# Altium schematic symbol library SYM-Passive.SchLib: 208 symbols (part 6 of 9)
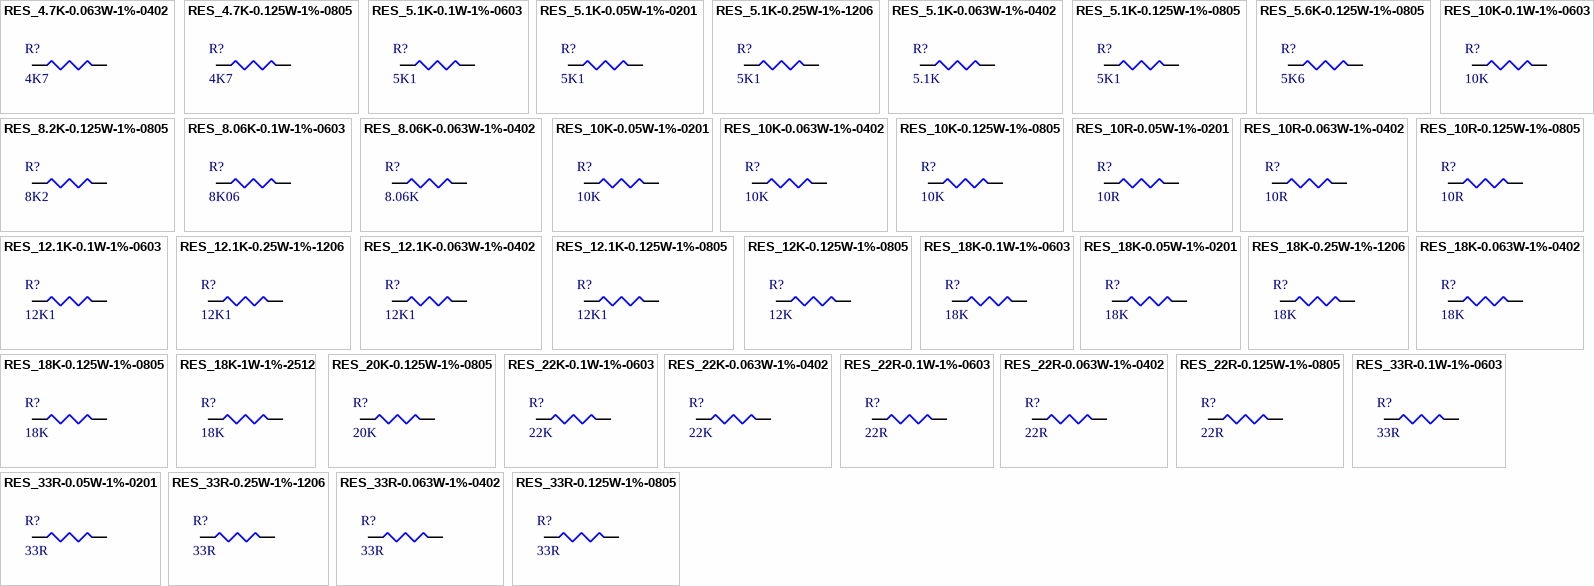
[diagram p10: symbols RES_4.7K-0.063W-1%-0402 to RES_33R-0.125W-1%-0805]

## RES_10K-0.05W-1%-0201
designator R?, comment 10K
Res General Purpose Thick Film 0201 100K Ohm 1% 1/20W ±200ppm/°C Molded SMD Paper T/R; Manufacturer: Yageo; Manufacturer Part Number: RC0201FR-07100KL; Resistance: 100kR; Power Rating: 50mW; Voltage Rating: 25V; Supplier 1: Digi-Key; RoHS: Yes; Category: Chip SMD Resistors; Stock 1: 8209685; Pricing 1: 1=0/10000, 10=0/04200, 100=0/01700, 1000=0/00765, 2500=0/00664, 5000=0/00548 (USD); Case/Package: 0201; Number of Pins: 2; Case Code (Imperial): 0201; Case Code (Metric): 0603; Contact Plating: Tin,Matte; Size Code: 0201; Min Operating Temperature: -55°C; Max Operating Temperature: 125°C; Tolerance: 1%; Packaging: Tape and Reel; Package Quantity: 10000; Termination: SMD/SMT; Resistor Type: Thick Film; Number of Terminations: 2; Temperature Coefficient: 200ppm/°C; Max Power Dissipation: 50mW; Voltage Rating (DC): 25V; Features: Moisture Resistant; Series: RC; Resistance Tolerance: 1%; Construction: Rectangular; Length: 0.024inch; Width: 0.012inch; Height: 0.01inch; Depth: 0.3mm; REACH SVHC: No SVHC; Military Standard: Not; Lead Free: Lead Free; RoHS Compliant: Yes; ComponentLink1URL: https://datasheet.ciiva.com/2493/pyu-r-int-thick-7-2493769.pdf?src-supplier=Digi-Key; ComponentLink1Description: https://datasheet.ciiva.com/2493/pyu-r-int-thick-7-2493769.pdf?src-supplier=Digi-Key; ComponentLink2URL: https://datasheet.ciiva.com/2493/pyu-r-int-thick-7-2493770.pdf?src-supplier=Digi-Key; ComponentLink2Description: https://datasheet.ciiva.com/2493/pyu-r-int-thick-7-2493770.pdf?src-supplier=Digi-Key; ComponentLink3URL: https://datasheet.ciiva.com/2493/pyu-r-int-thick-7-2493771.pdf?src-supplier=Digi-Key; ComponentLink3Description: https://datasheet.ciiva.com/2493/pyu-r-int-thick-7-2493771.pdf?src-supplier=Digi-Key; ComponentLink4URL: https://datasheet.ciiva.com/26829/getdatasheetpartid-420441-26829850.pdf?src-supplier=Verical; ComponentLink4Description: https://datasheet.ciiva.com/26829/getdatasheetpartid-420441-26829850.pdf?src-supplier=Verical; ComponentLink5URL: https://datasheet.ciiva.com/16855/pyu-rc0201-51-rohs-l-8-16855774.pdf?src-supplier=Avnet+Europe; ComponentLink5Description: https://datasheet.ciiva.com/16855/pyu-rc0201-51-rohs-l-8-16855774.pdf?src-supplier=Avnet+Europe; ComponentLink6URL: https://datasheet.ciiva.com/22698/1563626-22698495.pdf?src-supplier=Element14; ComponentLink6Description: https://datasheet.ciiva.com/22698/1563626-22698495.pdf?src-supplier=Element14; ComponentLink7URL: https://datasheet.ciiva.com/7660/1421516-7660806.pdf?src-supplier=Element14; ComponentLink7Description: https://datasheet.ciiva.com/7660/1421516-7660806.pdf?src-supplier=Element14; ComponentLink8URL: https://datasheet.ciiva.com/46391/1421516-46391338.pdf?src-supplier=Element14; ComponentLink8Description: https://datasheet.ciiva.com/46391/1421516-46391338.pdf?src-supplier=Element14; Supplier Part Number 1: 311-100KMCT-ND
footprint RESC0603X03N - 0201 (Chip Resistor, 2-Leads, Body 0/60x0/30mm, IPC Medium Density)
footprint RESC0603X03M - 0201 (Chip Resistor, 2-Leads, Body 0/60x0/30mm, IPC Low Density)
footprint RESC0603X03L - 0201 (Chip Resistor, 2-Leads, Body 0/60x0/30mm, IPC High Density)
pins: 1, 2

## RES_10K-0.063W-1%-0402
designator R?, comment 10K
Res General Purpose Thick Film 0402 10K Ohm 1% 1/16W ±100ppm/°C Molded SMD Paper T/R; Manufacturer: Yageo; Manufacturer Part Number: RC0402FR-0710KP; Resistance: 10kR; Max Power Dissipation: 63mW; Temperature Coefficient: 150ppm/°C; Supplier 1: Digi-Key; RoHS: Yes; Category: Chip SMD Resistors; Stock 1: 797794; Pricing 1: 1=0/10000, 10=0/03600, 100=0/01450, 1000=0/00652, 2500=0/00566, 5000=0/00468 (USD); Case/Package: 0402; Case Code (Metric): 1005; Case Code (Imperial): 0402; Min Operating Temperature: -55°C; Max Operating Temperature: 155°C; Packaging: Tape and Reel; Resistor Type: Thick Film; Number of Terminations: 2; Tolerance: 1%; Features: Moisture Resistant; Length: 0.039inch; Width: 0.02inch; Height: 0.016inch; RoHS Compliant: Yes; ComponentLink1URL: http://www.yageo.com/NewPortal/yageodocoutput?fileName=/pdf/R-Chip/PYu-RC_51_RoHS_P_0.pdf&src-supplier=Digi-Key; ComponentLink1Description: http://www.yageo.com/NewPortal/yageodocoutput?fileName=/pdf/R-Chip/PYu-RC_51_RoHS_P_0.pdf&src-supplier=Digi-Key; Supplier Part Number 1: YAG1249CT-ND
footprint RESC1005X04N - 0402 (Chip Resistor, 2-Leads, Body 1/00x0/50mm, IPC Medium Density)
footprint RESC1005X04M - 0402 (Chip Resistor, 2-Leads, Body 1/00x0/50mm, IPC Low Density)
footprint RESC1005X04L - 0402 (Chip Resistor, 2-Leads, Body 1/00x0/50mm, IPC High Density)
pins: 1, 2

## RES_10K-0.125W-1%-0805
designator R?, comment 10K
Res SMD 0805 10K 1% 0.125W T.C.100PPM; Manufacturer: Yageo; Manufacturer Part Number: RC0805FR-0710KL; Resistance: 10kR; Temperature Coefficient: 100ppm/°C; Power Rating: 125mW; Voltage Rating: 150V; Supplier 1: Digi-Key; RoHS: Yes; Category: Chip SMD Resistors; Pricing 1: 1=0/10000, 10=0/04200, 100=0/01690, 1000=0/00759, 2500=0/00659 (USD); Case/Package: 0805; Case Code (Imperial): 0805; Case Code (Metric): 2012; Size Code: 0805; Min Operating Temperature: -55°C; Max Operating Temperature: 155°C; Packaging: Tape and Reel; Tolerance: 1%; Resistor Type: Thick Film; Package Quantity: 1; Termination: SMD/SMT; Number of Terminations: 2; Max Power Dissipation: 125mW; Features: Moisture Resistant; Series: RC; Construction: Rectangular; Resistance Tolerance: 1%; Technology: THICK FILM; Length: 2mm; Width: 0.049inch; Height: 0.024inch; Depth: 1.25mm; REACH SVHC: Unknown; Lead Free: Lead Free; Military Standard: Not; RoHS Compliant: Yes; Supplier Part Number 1: 311-10.0KCRCT-ND
footprint RESC2012X05N - 0805 (Chip Resistor, 2-Leads, Body 2/00x1/25mm, IPC Medium Density)
footprint RESC2012X05M - 0805 (Chip Resistor, 2-Leads, Body 2/00x1/25mm, IPC Low Density)
footprint RESC2012X05L - 0805 (Chip Resistor, 2-Leads, Body 2/00x1/25mm, IPC High Density)
pins: 1, 2

## RES_10R-0.05W-1%-0201
designator R?, comment 10R
Res Thick Film 0201 10 Ohm 1% 1/20W -100ppm/°C to 350ppm/°C Molded SMD SMD Paper T/R; Manufacturer: Yageo; Manufacturer Part Number: RC0201FR-0710RL; Power Rating: 50mW; Voltage Rating: 25V; Supplier 1: Digi-Key; RoHS: Yes; Category: Chip SMD Resistors; Stock 1: 22308; Pricing 1: 1=0/10000, 10=0/06300, 100=0/02560, 1000=0/01149, 2500=0/00997, 5000=0/00824 (USD); Case/Package: 0201; Case Code (Imperial): 0201; Case Code (Metric): 0603; Contact Plating: Tin,Matte; Size Code: 0201; Min Operating Temperature: -55°C; Max Operating Temperature: 125°C; Resistance: 10R; Tolerance: 1%; Packaging: Tape and Reel; Package Quantity: 1; Termination: SMD/SMT; Resistor Type: Thick Film; Temperature Coefficient: 350ppm/°C; Number of Terminations: 2; Max Power Dissipation: 50mW; Features: Moisture Resistant; Series: RC; Resistance Tolerance: 1%; Length: 0.024inch; Width: 0.012inch; Height: 0.01inch; Radiation Hardening: No; REACH SVHC: No SVHC; Lead Free: Lead Free; RoHS Compliant: Yes; ComponentLink1URL: https://datasheet.ciiva.com/2467/pyu-r-int-thick-7-2467097.pdf?src-supplier=Digi-Key; ComponentLink1Description: https://datasheet.ciiva.com/2467/pyu-r-int-thick-7-2467097.pdf?src-supplier=Digi-Key; ComponentLink2URL: https://datasheet.ciiva.com/2467/pyu-r-int-thick-7-2467098.pdf?src-supplier=Digi-Key; ComponentLink2Description: https://datasheet.ciiva.com/2467/pyu-r-int-thick-7-2467098.pdf?src-supplier=Digi-Key; ComponentLink3URL: https://datasheet.ciiva.com/2467/pyu-r-int-thick-7-2467099.pdf?src-supplier=Digi-Key; ComponentLink3Description: https://datasheet.ciiva.com/2467/pyu-r-int-thick-7-2467099.pdf?src-supplier=Digi-Key; ComponentLink4URL: https://datasheet.ciiva.com/5757/1563626-5757896.pdf?src-supplier=Farnell; ComponentLink4Description: https://datasheet.ciiva.com/5757/1563626-5757896.pdf?src-supplier=Farnell; ComponentLink5URL: https://datasheet.ciiva.com/7672/1563626-7672197.pdf?src-supplier=Element14; ComponentLink5Description: https://datasheet.ciiva.com/7672/1563626-7672197.pdf?src-supplier=Element14; ComponentLink6URL: https://datasheet.ciiva.com/16855/pyu-rc0201-51-rohs-l-8-16855798.pdf?src-supplier=Avnet+Europe; ComponentLink6Description: https://datasheet.ciiva.com/16855/pyu-rc0201-51-rohs-l-8-16855798.pdf?src-supplier=Avnet+Europe; ComponentLink7URL: https://datasheet.ciiva.com/28405/pyu-rc0201-51-rohs-l-8-28405493.pdf?src-supplier=Avnet+Europe; ComponentLink7Description: https://datasheet.ciiva.com/28405/pyu-rc0201-51-rohs-l-8-28405493.pdf?src-supplier=Avnet+Europe; Supplier Part Number 1: 311-10.0MCT-ND
footprint RESC0603X03N - 0201 (Chip Resistor, 2-Leads, Body 0/60x0/30mm, IPC Medium Density)
footprint RESC0603X03M - 0201 (Chip Resistor, 2-Leads, Body 0/60x0/30mm, IPC Low Density)
footprint RESC0603X03L - 0201 (Chip Resistor, 2-Leads, Body 0/60x0/30mm, IPC High Density)
pins: 1, 2

## RES_10R-0.063W-1%-0402
designator R?, comment 10R
Res General Purpose Thick Film 0402 10 Ohm 1% 1/16W ±200ppm/°C Molded SMD Paper T/R; Manufacturer: Yageo; Manufacturer Part Number: RC0402FR-0710RL; Power Rating: 63mW; Voltage Rating: 50V; Supplier 1: Digi-Key; RoHS: Yes; Category: Chip SMD Resistors; Pricing 1: 1=0/10000, 10=0/02500, 100=0/01000, 1000=0/00451, 2500=0/00392, 5000=0/00323 (USD); Case/Package: 0402; Case Code (Imperial): 0402; Case Code (Metric): 1005; Min Operating Temperature: -55°C; Max Operating Temperature: 155°C; Tolerance: 1%; Resistance: 10R; Packaging: Tape and Reel; Termination: SMD/SMT; Resistor Type: Thick Film; Temperature Coefficient: 200ppm/°C; Number of Terminations: 2; Features: Moisture Resistant; Series: RC; Max Power Dissipation: 63mW; Resistance Tolerance: 1%; Technology: THICK FILM; Construction: Rectangular; Working Voltage: 50V; Length: 1mm; Height: 0.32mm; Depth: 0.5mm; REACH SVHC: Unknown; Military Standard: Not; Lead Free: Lead Free; RoHS Compliant: Yes; ComponentLink1URL: https://datasheet.ciiva.com/11808/0900766b80c66297-11808764.pdf?src-supplier=RSComponents; ComponentLink1Description: https://datasheet.ciiva.com/11808/0900766b80c66297-11808764.pdf?src-supplier=RSComponents; ComponentLink2URL: https://datasheet.ciiva.com/7849/1018594-7849818.pdf?src-supplier=Element14; ComponentLink2Description: https://datasheet.ciiva.com/7849/1018594-7849818.pdf?src-supplier=Element14; ComponentLink3URL: https://datasheet.ciiva.com/46394/1018594-46394954.pdf?src-supplier=Element14; ComponentLink3Description: https://datasheet.ciiva.com/46394/1018594-46394954.pdf?src-supplier=Element14; ComponentLink4URL: https://datasheet.ciiva.com/7849/1018594-7849819.pdf?src-supplier=Element14; ComponentLink4Description: https://datasheet.ciiva.com/7849/1018594-7849819.pdf?src-supplier=Element14; ComponentLink5URL: https://datasheet.ciiva.com/15189/getdatasheetpartid-323697-15189339.pdf?src-supplier=Verical; ComponentLink5Description: https://datasheet.ciiva.com/15189/getdatasheetpartid-323697-15189339.pdf?src-supplier=Verical; Supplier Part Number 1: 311-10.0LRCT-ND
footprint RESC1005X04N - 0402 (Chip Resistor, 2-Leads, Body 1/00x0/50mm, IPC Medium Density)
footprint RESC1005X04M - 0402 (Chip Resistor, 2-Leads, Body 1/00x0/50mm, IPC Low Density)
footprint RESC1005X04L - 0402 (Chip Resistor, 2-Leads, Body 1/00x0/50mm, IPC High Density)
pins: 1, 2

## RES_10R-0.125W-1%-0805
designator R?, comment 10R
RC Series 0805 0.125 W 10 Ohm ±1% ±100 ppm/°C SMT Thick Film Chip Resistor; Manufacturer: Yageo; Manufacturer Part Number: RC0805FR-1310RL; Power Rating: 125mW; Voltage Rating: 150V; Temperature Coefficient: 200ppm/°C; Supplier 1: Digi-Key; Category: Chip SMD Resistors; Stock 1: 17123; Pricing 1: 1=0/10000, 10=0/08300, 100=0/03390, 1000=0/01521, 2500=0/01320, 5000=0/01090 (USD); Case/Package: 0805; Case Code (Imperial): 0805; Case Code (Metric): 2012; Contact Plating: Tin; Min Operating Temperature: -55°C; Max Operating Temperature: 155°C; Resistance: 10R; Tolerance: 1%; Packaging: Tape and Reel; Resistor Type: Thick Film; Termination: SMD/SMT; Series: RC; Construction: Rectangular; Length: 2mm; Width: 1.25mm; Height: 0.5mm; Depth: 1.25mm; Military Standard: Not; RoHS Compliant: Yes; ComponentLink1URL: http://components.arrow.com/part/dataview/0323_00201008?src-supplier=Arrow+Europe; ComponentLink1Description: http://components.arrow.com/part/dataview/0323_00201008?src-supplier=Arrow+Europe; ComponentLink2URL: http://www.mouser.com/ds/2/447/Yageo_08112016_RC0805-968729.pdf?src-supplier=Mouser; ComponentLink2Description: http://www.mouser.com/ds/2/447/Yageo_08112016_RC0805-968729.pdf?src-supplier=Mouser; ComponentLink3URL: http://www.yageo.com/documents/recent/PYu-RC_Group_51_RoHS_L_2.pdf?src-supplier=Avnet; ComponentLink3Description: http://www.yageo.com/documents/recent/PYu-RC_Group_51_RoHS_L_2.pdf?src-supplier=Avnet; ComponentLink4URL: http://www.yageo.com/documents/recent/PYu-RC0805_51_RoHS_L_4.pdf?src-supplier=Avnet+Europe; ComponentLink4Description: http://www.yageo.com/documents/recent/PYu-RC0805_51_RoHS_L_4.pdf?src-supplier=Avnet+Europe; ComponentLink5URL: https://datasheet.octopart.com/RC0805FR-1310RL-Yageo-datasheet-8324252.pdf?src-supplier=Future+Electronics; ComponentLink5Description: https://datasheet.octopart.com/RC0805FR-1310RL-Yageo-datasheet-8324252.pdf?src-supplier=Future+Electronics; ComponentLink6URL: https://datasheet.octopart.com/RC0805FR-1310RL-Yageo-datasheet-73766026.pdf; ComponentLink6Description: https://datasheet.octopart.com/RC0805FR-1310RL-Yageo-datasheet-73766026.pdf; Supplier Part Number 1: 13-RC0805FR-1310RLCT-ND
footprint RESC2012X05N - 0805 (Chip Resistor, 2-Leads, Body 2/00x1/25mm, IPC Medium Density)
footprint RESC2012X05M - 0805 (Chip Resistor, 2-Leads, Body 2/00x1/25mm, IPC Low Density)
footprint RESC2012X05L - 0805 (Chip Resistor, 2-Leads, Body 2/00x1/25mm, IPC High Density)
pins: 1, 2

## RES_12.1K-0.1W-1%-0603
designator R?, comment 12K1
Res General Purpose Thick Film 0603 1.21K Ohm 1% 1/10W ±100ppm/°C Molded SMD Paper T/R; Manufacturer: Yageo; Manufacturer Part Number: RC0603FR-071K21L; Resistance: 1.21kR; Power Rating: 100mW; Voltage Rating: 50V; Working Voltage: 75V; Supplier 1: Digi-Key; RoHS: Yes; Category: Chip SMD Resistors; Stock 1: 1059233; Pricing 1: 1=0/10000, 10=0/02300, 100=0/00930, 1000=0/00417, 2500=0/00362 (USD); Case/Package: 0603; Case Code (Imperial): 0603; Case Code (Metric): 1608; Min Operating Temperature: -55°C; Max Operating Temperature: 155°C; Tolerance: 1%; Packaging: Tape and Reel; Package Quantity: 5000; Termination: SMD/SMT; Resistor Type: Thick Film; Temperature Coefficient: 100ppm/°C; Voltage Rating (DC): 50V; Number of Terminations: 2; Features: Moisture Resistant; Series: RC; Max Power Dissipation: 100mW; Construction: Rectangular; Technology: THICK FILM; Length: 1.6mm; Width: 0.8mm; Height: 0.45mm; Depth: 0.8mm; Military Standard: Not; Lead Free: Lead Free; RoHS Compliant: Yes; ComponentLink1URL: https://datasheet.ciiva.com/12555/rc0603-272842-12555339.pdf?src-supplier=Mouser; ComponentLink1Description: https://datasheet.ciiva.com/12555/rc0603-272842-12555339.pdf?src-supplier=Mouser; Supplier Part Number 1: 311-1.21KHRCT-ND
footprint RESC1608X04N - 0603 (Chip Resistor, 2-Leads, Body 1/60x0/80mm, IPC Medium Density)
footprint RESC1608X04M - 0603 (Chip Resistor, 2-Leads, Body 1/60x0/80mm, IPC Low Density)
footprint RESC1608X04L - 0603 (Chip Resistor, 2-Leads, Body 1/60x0/80mm, IPC High Density)
pins: 1, 2

## RES_12.1K-0.25W-1%-1206
designator R?, comment 12K1
Res Thick Film 1206 12.1K Ohm 1% 0.25W(1/4W) ±100ppm/C Pad SMD T/R; Manufacturer: Yageo; Manufacturer Part Number: RC1206FR-0712K1L; Power Rating: 250mW; Value: 12.1kR; Voltage Rating: 200V; Temperature Coefficient: 100ppm/°C; Supplier: Digi-Key; Supplier Part Number: 311-12.1KFRCT-ND; RoHS: Yes; Category: Chip SMD Resistors; Stock: 133585; Pricing: 1=0.10000, 10=0.05900, 100=0.02380, 1000=0.01071, 2500=0.00929 (USD); Mounting Technology: Surface Mount; Case/Package: 1206; Case Code (Imperial): 1206; Case Code (Metric): 3216; Min Operating Temperature: -55°C; Max Operating Temperature: 155°C; Packaging: Tape and Reel; Package Quantity: 1; Tolerance: 1%; Termination: SMD/SMT; Resistor Type: Thick Film; Number of Terminations: 2; Max Power Dissipation: 250mW; Voltage Rating (DC): 200V; Features: Moisture Resistant; Series: RC; Construction: Rectangular; Technology: THICK FILM; Length: 3.1mm; Width: 1.6mm; Height: 0.55mm; Depth: 1.6mm; Military Standard: Not; Lead Free: Lead Free; RoHS Compliant: Yes; ComponentLink1URL: https://datasheet.ciiva.com/11809/0900766b80c6630a-11809445.pdf?src-supplier=Rs; ComponentLink1Description: https://datasheet.ciiva.com/11809/0900766b80c6630a-11809445.pdf?src-supplier=Rs; ComponentLink2URL: https://datasheet.ciiva.com/2460/pyu-rc1206-51-rohs-l-4-2460949.pdf?src-supplier=Digi-Key; ComponentLink2Description: https://datasheet.ciiva.com/2460/pyu-rc1206-51-rohs-l-4-2460949.pdf?src-supplier=Digi-Key; ComponentLink3URL: https://datasheet.ciiva.com/2460/pyu-rc1206-51-rohs-l-4-2460950.pdf?src-supplier=Digi-Key; ComponentLink3Description: https://datasheet.ciiva.com/2460/pyu-rc1206-51-rohs-l-4-2460950.pdf?src-supplier=Digi-Key; ComponentLink4URL: https://datasheet.ciiva.com/2460/pyu-rc1206-51-rohs-l-4-2460948.pdf?src-supplier=Digi-Key; ComponentLink4Description: https://datasheet.ciiva.com/2460/pyu-rc1206-51-rohs-l-4-2460948.pdf?src-supplier=Digi-Key; ComponentLink5URL: https://datasheet.ciiva.com/16746/pyu-rc1206-51-rohs-l-4-16746040.pdf?src-supplier=Future+Electronics; ComponentLink5Description: https://datasheet.ciiva.com/16746/pyu-rc1206-51-rohs-l-4-16746040.pdf?src-supplier=Future+Electronics
footprint RESC3116X06N - 1206 (Chip Resistor, 2-Leads, Body 3/10x1/60mm, IPC Medium Density)
footprint RESC3116X06M - 1206 (Chip Resistor, 2-Leads, Body 3/10x1/60mm, IPC Low Density)
footprint RESC3116X06L - 1206 (Chip Resistor, 2-Leads, Body 3/10x1/60mm, IPC High Density)
pins: 1, 2

## RES_12.1K-0.063W-1%-0402
designator R?, comment 12K1
Res General Purpose Thick Film 0402 12.1K Ohm 1% 1/16W ±100ppm/°C Molded SMD Paper T/R; Manufacturer: Yageo; Manufacturer Part Number: RC0402FR-0712K1L; Resistance: 12.1kR; Power Rating: 62.5mW; Voltage Rating: 50V; Max Power Dissipation: 63mW; Supplier 1: Digi-Key; RoHS: Yes; Category: Chip SMD Resistors; Stock 1: 700009; Pricing 1: 1=0/10000, 10=0/01600, 100=0/00660, 1000=0/00299, 2500=0/00259, 5000=0/00214 (USD); Case/Package: 0402; Case Code (Metric): 1005; Case Code (Imperial): 0402; Size Code: 0402; Min Operating Temperature: -55°C; Max Operating Temperature: 155°C; Package Quantity: 1; Tolerance: 1%; Packaging: Tape and Reel; Resistor Type: Thick Film; Number of Terminations: 2; Termination: SMD/SMT; Temperature Coefficient: 100ppm/°C; Voltage Rating (DC): 50V; Features: Moisture Resistant; Series: RC; Construction: Rectangular; Resistance Tolerance: 1%; Length: 1mm; Width: 0.02inch; Height: 0.016inch; Depth: 0.5mm; Military Standard: Not; Lead Free: Lead Free; RoHS Compliant: Yes; REACH SVHC: No SVHC; ComponentLink1URL: https://datasheet.ciiva.com/11808/0900766b80d8d3b8-11808222.pdf?src-supplier=RSComponents; ComponentLink1Description: https://datasheet.ciiva.com/11808/0900766b80d8d3b8-11808222.pdf?src-supplier=RSComponents; ComponentLink2URL: https://datasheet.ciiva.com/2453/pyu-r-int-thick-7-2453488.pdf?src-supplier=Digi-Key; ComponentLink2Description: https://datasheet.ciiva.com/2453/pyu-r-int-thick-7-2453488.pdf?src-supplier=Digi-Key; ComponentLink3URL: https://datasheet.ciiva.com/2453/pyu-r-int-thick-7-2453489.pdf?src-supplier=Digi-Key; ComponentLink3Description: https://datasheet.ciiva.com/2453/pyu-r-int-thick-7-2453489.pdf?src-supplier=Digi-Key; ComponentLink4URL: https://datasheet.ciiva.com/7983/1018594-7983493.pdf?src-supplier=Element14; ComponentLink4Description: https://datasheet.ciiva.com/7983/1018594-7983493.pdf?src-supplier=Element14; ComponentLink5URL: https://datasheet.ciiva.com/17070/pyu-rc0402-51-rohs-l-6-r-17070757.pdf?src-supplier=Future+Electronics; ComponentLink5Description: https://datasheet.ciiva.com/17070/pyu-rc0402-51-rohs-l-6-r-17070757.pdf?src-supplier=Future+Electronics; ComponentLink6URL: https://datasheet.ciiva.com/2453/pyu-r-int-thick-7-2453487.pdf?src-supplier=Digi-Key; ComponentLink6Description: https://datasheet.ciiva.com/2453/pyu-r-int-thick-7-2453487.pdf?src-supplier=Digi-Key; Supplier Part Number 1: 311-12.1KLRCT-ND
footprint RESC1005X04N - 0402 (Chip Resistor, 2-Leads, Body 1/00x0/50mm, IPC Medium Density)
footprint RESC1005X04M - 0402 (Chip Resistor, 2-Leads, Body 1/00x0/50mm, IPC Low Density)
footprint RESC1005X04L - 0402 (Chip Resistor, 2-Leads, Body 1/00x0/50mm, IPC High Density)
pins: 1, 2

## RES_12.1K-0.125W-1%-0805
designator R?, comment 12K1
Res Thick Film 0805 121K Ohm 1% 0.125W(1/8W) ±100ppm/C Pad SMD T/R; Manufacturer: Yageo; Manufacturer Part Number: RC0805FR-07121KL; Value: 121kR; Power Rating: 125mW; Temperature Coefficient: 100ppm/°C; Voltage Rating (DC): 150V; Supplier: Digi-Key; Supplier Part Number: 311-121KCRCT-ND; RoHS: Yes; Category: Chip SMD Resistors; Stock: 314831; Pricing: 1=0.10000, 10=0.03300, 100=0.01330, 1000=0.00600, 2500=0.00520 (USD); Case/Package: 0805; Case Code (Imperial): 0805; Case Code (Metric): 2012; Min Operating Temperature: -55°C; Max Operating Temperature: 155°C; Tolerance: 1%; Packaging: Tape and Reel; Voltage Rating: 150V; Termination: SMD/SMT; Number of Terminations: 2; Features: Moisture Resistant; Series: RC; Max Power Dissipation: 125mW; Working Voltage: 150V; Technology: THICK FILM; Lead Free: Lead Free; RoHS Compliant: Yes; ComponentLink1URL: https://datasheet.ciiva.com/12668/rc0805-12668170.pdf?src-supplier=Mouser; ComponentLink1Description: https://datasheet.ciiva.com/12668/rc0805-12668170.pdf?src-supplier=Mouser; ComponentLink2URL: https://datasheet.ciiva.com/16741/rc0805-16741462.pdf?src-supplier=Future+Electronics; ComponentLink2Description: https://datasheet.ciiva.com/16741/rc0805-16741462.pdf?src-supplier=Future+Electronics
footprint RESC2012X05N - 0805 (Chip Resistor, 2-Leads, Body 2/00x1/25mm, IPC Medium Density)
footprint RESC2012X05M - 0805 (Chip Resistor, 2-Leads, Body 2/00x1/25mm, IPC Low Density)
footprint RESC2012X05L - 0805 (Chip Resistor, 2-Leads, Body 2/00x1/25mm, IPC High Density)
pins: 1, 2

## RES_12K-0.125W-1%-0805
designator R?, comment 12K
Res Thick Film 0805 12K Ohm 1% 0.125W(1/8W) ±100ppm/C Pad SMD T/R; Manufacturer: Yageo; Manufacturer Part Number: RC0805FR-0712KL; Resistance: 12kR; Power Rating: 125mW; Temperature Coefficient: 100ppm/°C; Voltage Rating: 150V; Supplier 1: Digi-Key; RoHS: Yes; Category: Chip SMD Resistors; Stock 1: 314821; Pricing 1: 1=0/10000, 10=0/04200, 100=0/01690, 1000=0/00759, 2500=0/00659 (USD); Case/Package: 0805; Case Code (Imperial): 0805; Case Code (Metric): 2012; Weight: 0.000194oz; Size Code: 0805; Min Operating Temperature: -55°C; Max Operating Temperature: 155°C; Tolerance: 1%; Packaging: Tape and Reel; Package Quantity: 1; Termination: SMD/SMT; Resistor Type: Thick Film; Number of Terminations: 2; Max Power Dissipation: 125mW; Features: Moisture Resistant; Series: RC; Resistance Tolerance: 1%; Construction: Rectangular; Length: 2mm; Width: 1.25mm; Height: 0.024inch; Depth: 1.25mm; REACH SVHC: Unknown; Lead Free: Lead Free; Military Standard: Not; RoHS Compliant: Yes; ComponentLink1URL: https://datasheet.ciiva.com/2519/pyu-r-int-thick-7-2519832.pdf?src-supplier=Digi-Key; ComponentLink1Description: https://datasheet.ciiva.com/2519/pyu-r-int-thick-7-2519832.pdf?src-supplier=Digi-Key; ComponentLink2URL: https://datasheet.ciiva.com/2519/pyu-r-int-thick-7-2519833.pdf?src-supplier=Digi-Key; ComponentLink2Description: https://datasheet.ciiva.com/2519/pyu-r-int-thick-7-2519833.pdf?src-supplier=Digi-Key; ComponentLink3URL: https://datasheet.ciiva.com/2519/pyu-r-int-thick-7-2519831.pdf?src-supplier=Digi-Key; ComponentLink3Description: https://datasheet.ciiva.com/2519/pyu-r-int-thick-7-2519831.pdf?src-supplier=Digi-Key; ComponentLink4URL: https://datasheet.ciiva.com/12577/rc0805-12577253.pdf?src-supplier=Mouser; ComponentLink4Description: https://datasheet.ciiva.com/12577/rc0805-12577253.pdf?src-supplier=Mouser; ComponentLink5URL: https://datasheet.ciiva.com/7941/444164-7941693.pdf?src-supplier=Element14; ComponentLink5Description: https://datasheet.ciiva.com/7941/444164-7941693.pdf?src-supplier=Element14; ComponentLink6URL: https://datasheet.ciiva.com/7941/444164-7941694.pdf?src-supplier=Element14; ComponentLink6Description: https://datasheet.ciiva.com/7941/444164-7941694.pdf?src-supplier=Element14; ComponentLink7URL: https://datasheet.ciiva.com/17018/rc0805-17018634.pdf?src-supplier=Future+Electronics; ComponentLink7Description: https://datasheet.ciiva.com/17018/rc0805-17018634.pdf?src-supplier=Future+Electronics; Supplier Part Number 1: 311-12.0KCRCT-ND
footprint RESC2012X05N - 0805 (Chip Resistor, 2-Leads, Body 2/00x1/25mm, IPC Medium Density)
footprint RESC2012X05M - 0805 (Chip Resistor, 2-Leads, Body 2/00x1/25mm, IPC Low Density)
footprint RESC2012X05L - 0805 (Chip Resistor, 2-Leads, Body 2/00x1/25mm, IPC High Density)
pins: 1, 2

## RES_18K-0.1W-1%-0603
designator R?, comment 18K
Res Thick Film 0603 18K Ohm 1% 0.1W(1/10W) +/-100ppm/ßC Epoxy SMD T/R; Manufacturer: Yageo; Manufacturer Part Number: RC0603FR-0718KL; Resistance: 18kR; Voltage Rating (DC): 50V; Temperature Coefficient: 100ppm/°C; Power Rating: 100mW; Voltage Rating: 75V; Supplier 1: Digi-Key; RoHS: Yes; Category: Chip SMD Resistors; Stock 1: 872510; Pricing 1: 1=0/10000, 10=0/02100, 100=0/00850, 1000=0/00383, 2500=0/00332 (USD); Case/Package: 0603; Number of Pins: 2; Case Code (Imperial): 0603; Case Code (Metric): 1608; Size Code: 0603; Weight: 7.1E-05oz; Min Operating Temperature: -55°C; Max Operating Temperature: 155°C; Tolerance: 1%; Packaging: Tape and Reel; Resistor Type: Thick Film; Termination: SMD/SMT; Features: Moisture Resistant; Series: RC; Max Power Dissipation: 100mW; Number of Terminations: 2; Resistance Tolerance: 1%; Technology: THICK FILM; Construction: Rectangular; Length: 1.6mm; Width: 0.8mm; Height: 0.45mm; Depth: 0.8mm; Lead Free: Lead Free; Military Standard: Not; RoHS Compliant: Yes; ComponentLink1URL: https://datasheet.ciiva.com/11819/0900766b80f96399-11819270.pdf?src-supplier=RSComponents; ComponentLink1Description: https://datasheet.ciiva.com/11819/0900766b80f96399-11819270.pdf?src-supplier=RSComponents; ComponentLink2URL: https://datasheet.ciiva.com/7746/443971-7746268.pdf?src-supplier=Element14; ComponentLink2Description: https://datasheet.ciiva.com/7746/443971-7746268.pdf?src-supplier=Element14; ComponentLink3URL: https://datasheet.ciiva.com/7746/443971-7746269.pdf?src-supplier=Element14; ComponentLink3Description: https://datasheet.ciiva.com/7746/443971-7746269.pdf?src-supplier=Element14; ComponentLink4URL: https://datasheet.ciiva.com/15189/getdatasheetpartid-325162-15189626.pdf?src-supplier=Verical; ComponentLink4Description: https://datasheet.ciiva.com/15189/getdatasheetpartid-325162-15189626.pdf?src-supplier=Verical; Supplier Part Number 1: 311-18.0KHRCT-ND
footprint RESC1608X04N - 0603 (Chip Resistor, 2-Leads, Body 1/60x0/80mm, IPC Medium Density)
footprint RESC1608X04M - 0603 (Chip Resistor, 2-Leads, Body 1/60x0/80mm, IPC Low Density)
footprint RESC1608X04L - 0603 (Chip Resistor, 2-Leads, Body 1/60x0/80mm, IPC High Density)
pins: 1, 2

## RES_18K-0.05W-1%-0201
designator R?, comment 18K
Res Thick Film 0201 18K Ohm 1% 0.05W(1/20W) ±200ppm/°C Pad SMD T/R; Manufacturer: Yageo; Manufacturer Part Number: RC0201FR-0718KL; Resistance: 18kR; Power Rating: 50mW; Voltage Rating: 25V; Supplier 1: Digi-Key; RoHS: Yes; Category: Chip SMD Resistors; Stock 1: 326936; Pricing 1: 1=0/10000, 10=0/03700, 100=0/01500, 1000=0/00672, 2500=0/00583, 5000=0/00482 (USD); Case/Package: 0201; Case Code (Metric): 0603; Case Code (Imperial): 0201; Size Code: 0201; Min Operating Temperature: -55°C; Max Operating Temperature: 125°C; Tolerance: 1%; Package Quantity: 1; Packaging: Cut Tape; Resistor Type: Thick Film; Number of Terminations: 2; Termination: SMD/SMT; Temperature Coefficient: 200ppm/°C; Max Power Dissipation: 50mW; Features: Moisture Resistant; Series: RC; Resistance Tolerance: 1%; Length: 0.6mm; Width: 0.3mm; Height: 0.23mm; Reach SVHC Compliant: Yes; Lead Free: Lead Free; RoHS Compliant: Yes; ComponentLink1URL: https://datasheet.ciiva.com/22661/1563626-22661291.pdf?src-supplier=Element14; ComponentLink1Description: https://datasheet.ciiva.com/22661/1563626-22661291.pdf?src-supplier=Element14; ComponentLink2URL: https://datasheet.ciiva.com/2493/pyu-r-int-thick-7-2493818.pdf?src-supplier=Digi-Key; ComponentLink2Description: https://datasheet.ciiva.com/2493/pyu-r-int-thick-7-2493818.pdf?src-supplier=Digi-Key; ComponentLink3URL: https://datasheet.ciiva.com/2493/pyu-r-int-thick-7-2493819.pdf?src-supplier=Digi-Key; ComponentLink3Description: https://datasheet.ciiva.com/2493/pyu-r-int-thick-7-2493819.pdf?src-supplier=Digi-Key; ComponentLink4URL: https://datasheet.ciiva.com/2493/pyu-r-int-thick-7-2493817.pdf?src-supplier=Digi-Key; ComponentLink4Description: https://datasheet.ciiva.com/2493/pyu-r-int-thick-7-2493817.pdf?src-supplier=Digi-Key; Supplier Part Number 1: 311-18.0KMCT-ND
footprint RESC0603X03N - 0201 (Chip Resistor, 2-Leads, Body 0/60x0/30mm, IPC Medium Density)
footprint RESC0603X03M - 0201 (Chip Resistor, 2-Leads, Body 0/60x0/30mm, IPC Low Density)
footprint RESC0603X03L - 0201 (Chip Resistor, 2-Leads, Body 0/60x0/30mm, IPC High Density)
pins: 1, 2

## RES_18K-0.25W-1%-1206
designator R?, comment 18K
Res Thick Film 1206 18K Ohm 1% 0.25W(1/4W) ±100ppm/C Pad SMD T/R; Manufacturer: Yageo; Manufacturer Part Number: RC1206FR-0718KL; Resistance: 18kR; Power Rating: 250mW; Voltage Rating: 200V; Temperature Coefficient: 100ppm/°C; Supplier 1: Digi-Key; RoHS: Yes; Category: Chip SMD Resistors; Stock 1: 179392; Pricing 1: 1=0/10000, 10=0/06500, 100=0/02650, 1000=0/01188, 2500=0/01032 (USD); Case/Package: 1206; Case Code (Imperial): 1206; Case Code (Metric): 3216; Weight: 0.000571oz; Size Code: 1206; Min Operating Temperature: -55°C; Max Operating Temperature: 155°C; Package Quantity: 1; Tolerance: 1%; Packaging: Cut Tape; Termination: SMD/SMT; Resistor Type: Thick Film; Number of Terminations: 2; Max Power Dissipation: 250mW; Features: Moisture Resistant; Series: RC1206; Resistance Tolerance: 1%; Technology: THICK FILM; Construction: Rectangular; Length: 0.122inch; Width: 0.063inch; Height: 0.55mm; Depth: 1.6mm; Lead Free: Lead Free; RoHS Compliant: Yes; Military Standard: Not; ComponentLink1URL: https://datasheet.ciiva.com/11819/0900766b80c6630a-11819880.pdf?src-supplier=RSComponents; ComponentLink1Description: https://datasheet.ciiva.com/11819/0900766b80c6630a-11819880.pdf?src-supplier=RSComponents; ComponentLink2URL: https://datasheet.ciiva.com/2492/pyu-rc1206-51-rohs-l-4-2492036.pdf?src-supplier=Digi-Key; ComponentLink2Description: https://datasheet.ciiva.com/2492/pyu-rc1206-51-rohs-l-4-2492036.pdf?src-supplier=Digi-Key; ComponentLink3URL: https://datasheet.ciiva.com/2492/pyu-rc1206-51-rohs-l-4-2492037.pdf?src-supplier=Digi-Key; ComponentLink3Description: https://datasheet.ciiva.com/2492/pyu-rc1206-51-rohs-l-4-2492037.pdf?src-supplier=Digi-Key; ComponentLink4URL: https://datasheet.ciiva.com/2492/pyu-rc1206-51-rohs-l-4-2492035.pdf?src-supplier=Digi-Key; ComponentLink4Description: https://datasheet.ciiva.com/2492/pyu-rc1206-51-rohs-l-4-2492035.pdf?src-supplier=Digi-Key; ComponentLink5URL: https://datasheet.ciiva.com/7857/444357-7857271.pdf?src-supplier=Element14; ComponentLink5Description: https://datasheet.ciiva.com/7857/444357-7857271.pdf?src-supplier=Element14; ComponentLink6URL: https://datasheet.ciiva.com/7857/444357-7857270.pdf?src-supplier=Element14; ComponentLink6Description: https://datasheet.ciiva.com/7857/444357-7857270.pdf?src-supplier=Element14; Supplier Part Number 1: 311-18.0KFRCT-ND
footprint RESC3116X06N - 1206 (Chip Resistor, 2-Leads, Body 3/10x1/60mm, IPC Medium Density)
footprint RESC3116X06M - 1206 (Chip Resistor, 2-Leads, Body 3/10x1/60mm, IPC Low Density)
footprint RESC3116X06L - 1206 (Chip Resistor, 2-Leads, Body 3/10x1/60mm, IPC High Density)
pins: 1, 2

## RES_18K-0.063W-1%-0402
designator R?, comment 18K
Res Thick Film 0402 18K Ohm 1% 0.063W(1/16W) ±100ppm/C Pad SMD T/R; Manufacturer: Yageo; Manufacturer Part Number: RC0402FR-0718KL; Resistance: 18kR; Power Rating: 63mW; Voltage Rating: 50V; Temperature Coefficient: 100ppm/°C; Supplier 1: Digi-Key; RoHS: Yes; Category: Chip SMD Resistors; Stock 1: 1311272; Pricing 1: 1=0/10000, 10=0/01400, 100=0/00580, 1000=0/00262, 2500=0/00228, 5000=0/00188 (USD); Case/Package: 0402; Case Code (Metric): 1005; Case Code (Imperial): 0402; Size Code: 0402; Min Operating Temperature: -55°C; Max Operating Temperature: 155°C; Tolerance: 1%; Packaging: Tape and Reel; Resistor Type: Thick Film; Number of Terminations: 2; Termination: SMD/SMT; Max Power Dissipation: 63mW; Features: Moisture Resistant; Series: RC; Construction: Rectangular; Resistance Tolerance: 1%; Package Quantity: 1; Technology: THICK FILM; Length: 1mm; Width: 0.02inch; Height: 0.016inch; Depth: 0.5mm; Military Standard: Not; Lead Free: Lead Free; RoHS Compliant: Yes; ComponentLink1URL: http://www.farnell.com/datasheets/2167052.pdf?src-supplier=Newark; ComponentLink1Description: http://www.farnell.com/datasheets/2167052.pdf?src-supplier=Newark; Supplier Part Number 1: 311-18.0KLRCT-ND
footprint RESC1005X04N - 0402 (Chip Resistor, 2-Leads, Body 1/00x0/50mm, IPC Medium Density)
footprint RESC1005X04M - 0402 (Chip Resistor, 2-Leads, Body 1/00x0/50mm, IPC Low Density)
footprint RESC1005X04L - 0402 (Chip Resistor, 2-Leads, Body 1/00x0/50mm, IPC High Density)
pins: 1, 2

## RES_18K-0.125W-1%-0805
designator R?, comment 18K
Res Thick Film 0805 1.8K Ohm 1% 0.125W(1/8W) ±100ppm/C Pad SMD T/R; Manufacturer: Yageo; Manufacturer Part Number: RC0805FR-071K8L; Resistance: 1.8kR; Power Rating: 125mW; Voltage Rating: 150V; Temperature Coefficient: 100ppm/°C; Supplier 1: Digi-Key; RoHS: Yes; Category: Chip SMD Resistors; Stock 1: 342067; Pricing 1: 1=0/10000, 10=0/03600, 100=0/01480, 1000=0/00666, 2500=0/00578 (USD); Case/Package: 0805; Case Code (Imperial): 0805; Case Code (Metric): 2012; Size Code: 0805; Min Operating Temperature: -55°C; Max Operating Temperature: 155°C; Tolerance: 1%; Packaging: Tape and Reel; Termination: SMD/SMT; Resistor Type: Thick Film; Number of Terminations: 2; Max Power Dissipation: 125mW; Features: Moisture Resistant; Series: RC; Resistance Tolerance: 1%; Technology: THICK FILM; Package Quantity: 1; Construction: Rectangular; Length: 2mm; Width: 0.049inch; Height: 0.5mm; Depth: 1.25mm; Lead Free: Lead Free; RoHS Compliant: Yes; Military Standard: Not; ComponentLink1URL: https://datasheet.ciiva.com/11808/0900766b8106beab-11808478.pdf?src-supplier=RSComponents; ComponentLink1Description: https://datasheet.ciiva.com/11808/0900766b8106beab-11808478.pdf?src-supplier=RSComponents; ComponentLink2URL: https://datasheet.ciiva.com/2457/pyu-r-int-thick-7-2457660.pdf?src-supplier=Digi-Key; ComponentLink2Description: https://datasheet.ciiva.com/2457/pyu-r-int-thick-7-2457660.pdf?src-supplier=Digi-Key; ComponentLink3URL: https://datasheet.ciiva.com/2457/pyu-r-int-thick-7-2457661.pdf?src-supplier=Digi-Key; ComponentLink3Description: https://datasheet.ciiva.com/2457/pyu-r-int-thick-7-2457661.pdf?src-supplier=Digi-Key; ComponentLink4URL: https://datasheet.ciiva.com/2457/pyu-r-int-thick-7-2457659.pdf?src-supplier=Digi-Key; ComponentLink4Description: https://datasheet.ciiva.com/2457/pyu-r-int-thick-7-2457659.pdf?src-supplier=Digi-Key; ComponentLink5URL: https://datasheet.ciiva.com/5557/rc0805-257173-5557976.pdf?src-supplier=Mouser; ComponentLink5Description: https://datasheet.ciiva.com/5557/rc0805-257173-5557976.pdf?src-supplier=Mouser; Supplier Part Number 1: 311-1.80KCRCT-ND
footprint RESC2012X05N - 0805 (Chip Resistor, 2-Leads, Body 2/00x1/25mm, IPC Medium Density)
footprint RESC2012X05M - 0805 (Chip Resistor, 2-Leads, Body 2/00x1/25mm, IPC Low Density)
footprint RESC2012X05L - 0805 (Chip Resistor, 2-Leads, Body 2/00x1/25mm, IPC High Density)
pins: 1, 2

## RES_18K-1W-1%-2512
designator R?, comment 18K
Res Thick Film 2512 18K Ohm 1% 1W ±100ppm/°C Molded SMD Emboss T/R; Manufacturer: Yageo; Manufacturer Part Number: RC2512FK-0718KL; Resistance: 18kR; Voltage Rating: 200V; Supplier 1: Digi-Key; RoHS: Yes; Category: Chip SMD Resistors; Stock 1: 1474; Pricing 1: 1=0/41000, 10=0/29400, 100=0/11740, 1000=0/05786 (USD); Case/Package: 2512; Case Code (Imperial): 2512; Case Code (Metric): 6432; Size Code: 2512; Min Operating Temperature: -55°C; Max Operating Temperature: 155°C; Power Rating: 1W; Packaging: Tape and Reel; Tolerance: 1%; Resistor Type: Thick Film; Termination: SMD/SMT; Number of Terminations: 2; Temperature Coefficient: 100ppm/°C; Max Power Dissipation: 1W; Features: Moisture Resistant; Series: RC; Construction: Rectangular; Length: 6.35mm; Width: 3.1mm; Height: 0.026inch; Depth: 3.1mm; Military Standard: Not; Lead Free: Lead Free; RoHS Compliant: Yes; ComponentLink1URL: http://www.mouser.com/ds/2/447/PYu-RC2512_51_RoHS_L_(4)-7620.pdf?src-supplier=Mouser; ComponentLink1Description: http://www.mouser.com/ds/2/447/PYu-RC2512_51_RoHS_L_(4)-7620.pdf?src-supplier=Mouser; ComponentLink2URL: http://www.yageo.com/documents/recent/PYu-RC2512_51_RoHS_L_(4).pdf?src-supplier=Future+Electronics; ComponentLink2Description: http://www.yageo.com/documents/recent/PYu-RC2512_51_RoHS_L_(4).pdf?src-supplier=Future+Electronics; ComponentLink3URL: http://www.yageo.com.tw/exep/pages/download/literatures/PYu-R_INT-thick_7.pdf?src-supplier=Digi-Key; ComponentLink3Description: http://www.yageo.com.tw/exep/pages/download/literatures/PYu-R_INT-thick_7.pdf?src-supplier=Digi-Key; Supplier Part Number 1: 13-RC2512FK-0718KLCT-ND
footprint RESC6431X06N - 2512 (Chip Resistor, 2-Leads, Body 6/35x3/10mm, IPC Medium Density)
footprint RESC6431X06M - 2512 (Chip Resistor, 2-Leads, Body 6/35x3/10mm, IPC Low Density)
footprint RESC6431X06L - 2512 (Chip Resistor, 2-Leads, Body 6/35x3/10mm, IPC High Density)
pins: 1, 2

## RES_20K-0.125W-1%-0805
designator R?, comment 20K
Res Thick Film 0805 20K Ohm 1% 1/8W ±100ppm/°C Molded SMD SMD Paper T/R; Manufacturer: Yageo; Manufacturer Part Number: RC0805FR-1320KL; Resistance: 20kR; Power Rating: 125mW; Voltage Rating: 150V; Supplier 1: Digi-Key; Category: Chip SMD Resistors; Stock 1: 6359; Pricing 1: 1=0/10000, 10=0/04000, 100=0/01620, 1000=0/00726, 2500=0/00630, 5000=0/00520 (USD); Case/Package: 0805; Case Code (Imperial): 0805; Case Code (Metric): 2012; Contact Plating: Tin; Min Operating Temperature: -55°C; Max Operating Temperature: 155°C; Tolerance: 1%; Packaging: Tape and Reel; Resistor Type: Thick Film; Termination: SMD/SMT; Temperature Coefficient: 100ppm/°C; Working Voltage: 150V; Number of Terminations: 2; Series: RC; Construction: Rectangular; Technology: THICK FILM; Length: 2mm; Width: 1.25mm; Height: 0.5mm; Depth: 1.25mm; Radiation Hardening: No; Military Standard: Not; Lead Free: Lead Free; RoHS Compliant: Yes; ComponentLink1URL: https://datasheet.ciiva.com/16740/rc0805-16740790.pdf?src-supplier=Future+Electronics; ComponentLink1Description: https://datasheet.ciiva.com/16740/rc0805-16740790.pdf?src-supplier=Future+Electronics; ComponentLink2URL: https://datasheet.octopart.com/RC0805FR-1320KL-Yageo-datasheet-8330313.pdf?src-supplier=Future+Electronics; ComponentLink2Description: https://datasheet.octopart.com/RC0805FR-1320KL-Yageo-datasheet-8330313.pdf?src-supplier=Future+Electronics; ComponentLink3URL: https://datasheet.octopart.com/RC0805FR-1320KL-Yageo-datasheet-12592811.pdf?src-supplier=Future+Electronics; ComponentLink3Description: https://datasheet.octopart.com/RC0805FR-1320KL-Yageo-datasheet-12592811.pdf?src-supplier=Future+Electronics; ComponentLink4URL: https://datasheet.octopart.com/RC0805FR-1320KL-Yageo-datasheet-8324252.pdf?src-supplier=Future+Electronics; ComponentLink4Description: https://datasheet.octopart.com/RC0805FR-1320KL-Yageo-datasheet-8324252.pdf?src-supplier=Future+Electronics; ComponentLink5URL: https://datasheet.octopart.com/RC0805FR-1320KL-Yageo-datasheet-73766026.pdf; ComponentLink5Description: https://datasheet.octopart.com/RC0805FR-1320KL-Yageo-datasheet-73766026.pdf; Supplier Part Number 1: 13-RC0805FR-1320KLCT-ND
footprint RESC2012X05N - 0805 (Chip Resistor, 2-Leads, Body 2/00x1/25mm, IPC Medium Density)
footprint RESC2012X05M - 0805 (Chip Resistor, 2-Leads, Body 2/00x1/25mm, IPC Low Density)
footprint RESC2012X05L - 0805 (Chip Resistor, 2-Leads, Body 2/00x1/25mm, IPC High Density)
pins: 1, 2

## RES_22K-0.1W-1%-0603
designator R?, comment 22K
Res Thick Film 0603 22K Ohm 1% 0.1W(1/10W) ±100ppm/C Pad SMD T/R; Manufacturer: Yageo; Manufacturer Part Number: RC0603FR-0722KL; Power Rating: 100mW; Resistance: 22kR; Temperature Coefficient: 100ppm/°C; Voltage Rating (DC): 50V; Supplier 1: Digi-Key; RoHS: Yes; Category: Chip SMD Resistors; Stock 1: 3558854; Pricing 1: 1=0/10000, 10=0/02300, 100=0/00930, 1000=0/00417, 2500=0/00362 (USD); Case/Package: 0603; Number of Pins: 2; Case Code (Imperial): 0603; Case Code (Metric): 1608; Size Code: 0603; Min Operating Temperature: -55°C; Max Operating Temperature: 155°C; Tolerance: 1%; Packaging: Tape and Reel; Voltage Rating: 50V; Package Quantity: 1; Termination: SMD/SMT; Resistor Type: Thick Film; Number of Terminations: 2; Max Power Dissipation: 100mW; Features: Moisture Resistant; Series: RC; Resistance Tolerance: 1%; Construction: Rectangular; Length: 1.6mm; Width: 0.031inch; Height: 0.022inch; Depth: 0.8mm; REACH SVHC: No SVHC; Lead Free: Lead Free; RoHS Compliant: Yes; Military Standard: Not; Supplier Part Number 1: 311-22.0KHRCT-ND
footprint RESC1608X04N - 0603 (Chip Resistor, 2-Leads, Body 1/60x0/80mm, IPC Medium Density)
footprint RESC1608X04M - 0603 (Chip Resistor, 2-Leads, Body 1/60x0/80mm, IPC Low Density)
footprint RESC1608X04L - 0603 (Chip Resistor, 2-Leads, Body 1/60x0/80mm, IPC High Density)
pins: 1, 2

## RES_22K-0.063W-1%-0402
designator R?, comment 22K
Res Thick Film 0402 22K Ohm 1% 0.063W(1/16W) ±100ppm/C Pad SMD T/R; Manufacturer: Yageo; Manufacturer Part Number: RC0402FR-0722KL; Resistance: 22kR; Power Rating: 62.5mW; Temperature Coefficient: 100ppm/°C; Voltage Rating: 50V; Max Power Dissipation: 63mW; Supplier 1: Digi-Key; RoHS: Yes; Category: Chip SMD Resistors; Stock 1: 3848060; Pricing 1: 1=0/10000, 10=0/01500, 100=0/00600, 1000=0/00267, 2500=0/00232, 5000=0/00192 (USD); Case/Package: 0402; Case Code (Metric): 1005; Case Code (Imperial): 0402; Min Operating Temperature: -55°C; Max Operating Temperature: 155°C; Tolerance: 1%; Packaging: Tape and Reel; Resistor Type: Thick Film; Number of Terminations: 2; Termination: SMD/SMT; Features: Moisture Resistant; Series: RC; Resistance Tolerance: 1%; Construction: Rectangular; Package Quantity: 1; Working Voltage: 50V; Length: 0.039inch; Width: 0.02inch; Height: 0.016inch; Depth: 0.5mm; Reach SVHC Compliant: Yes; Lead Free: Lead Free; Military Standard: Not; RoHS Compliant: Yes; ComponentLink1URL: http://www.farnell.com/datasheets/2167052.pdf?src-supplier=Farnell; ComponentLink1Description: http://www.farnell.com/datasheets/2167052.pdf?src-supplier=Farnell; ComponentLink2URL: http://www.farnell.com/datasheets/2167052.pdf?src-supplier=Element14; ComponentLink2Description: http://www.farnell.com/datasheets/2167052.pdf?src-supplier=Element14; ComponentLink3URL: http://www.farnell.com/datasheets/1018594.pdf?src-supplier=Element14; ComponentLink3Description: http://www.farnell.com/datasheets/1018594.pdf?src-supplier=Element14; Supplier Part Number 1: 311-22.0KLRCT-ND
footprint RESC1005X04N - 0402 (Chip Resistor, 2-Leads, Body 1/00x0/50mm, IPC Medium Density)
footprint RESC1005X04M - 0402 (Chip Resistor, 2-Leads, Body 1/00x0/50mm, IPC Low Density)
footprint RESC1005X04L - 0402 (Chip Resistor, 2-Leads, Body 1/00x0/50mm, IPC High Density)
pins: 1, 2

## RES_22R-0.1W-1%-0603
designator R?, comment 22R
Res Thick Film 0603 22 Ohm 1% 0.1W(1/10W) ±100ppm/C Pad SMD T/R; Manufacturer: Yageo; Manufacturer Part Number: RC0603FR-0722RL; Voltage Rating (DC): 50V; Temperature Coefficient: 100ppm/°C; Power Rating: 100mW; Supplier 1: Digi-Key; RoHS: Yes; Category: Chip SMD Resistors; Stock 1: 5697971; Pricing 1: 1=0/10000, 10=0/02300, 100=0/00930, 1000=0/00417, 2500=0/00362 (USD); Case/Package: 0603; Number of Pins: 2; Case Code (Metric): 1608; Case Code (Imperial): 0603; Size Code: 0603; Min Operating Temperature: -55°C; Max Operating Temperature: 155°C; Tolerance: 1%; Resistance: 22R; Packaging: Tape and Reel; Resistor Type: Thick Film; Voltage Rating: 50V; Package Quantity: 1; Number of Terminations: 2; Termination: SMD/SMT; Max Power Dissipation: 100mW; Features: Moisture Resistant; Series: RC; Resistance Tolerance: 1%; Construction: Rectangular; Technology: THICK FILM; Length: 1.6mm; Width: 0.031inch; Height: 0.022inch; Depth: 0.8mm; REACH SVHC: No SVHC; Lead Free: Lead Free; Military Standard: Not; RoHS Compliant: Yes; ComponentLink1URL: https://datasheet.ciiva.com/11819/0900766b80f96399-11819285.pdf?src-supplier=RSComponents; ComponentLink1Description: https://datasheet.ciiva.com/11819/0900766b80f96399-11819285.pdf?src-supplier=RSComponents; ComponentLink2URL: https://datasheet.ciiva.com/46395/443971-46395032.pdf?src-supplier=Element14; ComponentLink2Description: https://datasheet.ciiva.com/46395/443971-46395032.pdf?src-supplier=Element14; ComponentLink3URL: https://datasheet.ciiva.com/46440/1868787-46440901.pdf?src-supplier=Element14; ComponentLink3Description: https://datasheet.ciiva.com/46440/1868787-46440901.pdf?src-supplier=Element14; ComponentLink4URL: https://datasheet.ciiva.com/2454/pyu-r-int-thick-7-2454355.pdf?src-supplier=Digi-Key; ComponentLink4Description: https://datasheet.ciiva.com/2454/pyu-r-int-thick-7-2454355.pdf?src-supplier=Digi-Key; ComponentLink5URL: https://datasheet.ciiva.com/2454/pyu-r-int-thick-7-2454356.pdf?src-supplier=Digi-Key; ComponentLink5Description: https://datasheet.ciiva.com/2454/pyu-r-int-thick-7-2454356.pdf?src-supplier=Digi-Key; ComponentLink6URL: https://datasheet.ciiva.com/2454/pyu-r-int-thick-7-2454354.pdf?src-supplier=Digi-Key; ComponentLink6Description: https://datasheet.ciiva.com/2454/pyu-r-int-thick-7-2454354.pdf?src-supplier=Digi-Key; Supplier Part Number 1: 311-22.0HRCT-ND
footprint RESC1608X04N - 0603 (Chip Resistor, 2-Leads, Body 1/60x0/80mm, IPC Medium Density)
footprint RESC1608X04M - 0603 (Chip Resistor, 2-Leads, Body 1/60x0/80mm, IPC Low Density)
footprint RESC1608X04L - 0603 (Chip Resistor, 2-Leads, Body 1/60x0/80mm, IPC High Density)
pins: 1, 2

## RES_22R-0.063W-1%-0402
designator R?, comment 22R
Res Thick Film 0402 22 Ohm 1% 0.063W(1/16W) ±100ppm/C Pad SMD T/R; Manufacturer: Yageo; Manufacturer Part Number: RC0402FR-0722RL; Voltage Rating: 50V; Power Rating: 63mW; Temperature Coefficient: 100ppm/°C; Supplier 1: Digi-Key; RoHS: Yes; Category: Chip SMD Resistors; Stock 1: 3295761; Pricing 1: 10000=0/00186 (USD); Case/Package: 0402; Number of Pins: 2; Case Code (Imperial): 0402; Case Code (Metric): 1005; Size Code: 0402; Min Operating Temperature: -55°C; Max Operating Temperature: 155°C; Voltage Rating (DC): 50V; Resistance: 22R; Tolerance: 1%; Packaging: Tape and Reel; Termination: SMD/SMT; Resistor Type: Thick Film; Features: Moisture Resistant; Series: RC; Max Power Dissipation: 63mW; Number of Terminations: 2; Resistance Tolerance: 1%; Technology: THICK FILM; Construction: Rectangular; Length: 1mm; Width: 0.5mm; Height: 0.32mm; Depth: 0.5mm; REACH SVHC: Unknown; Lead Free: Lead Free; RoHS Compliant: Yes; Military Standard: Not; ComponentLink1URL: https://datasheet.ciiva.com/11819/0900766b80c66297-11819462.pdf?src-supplier=RSComponents; ComponentLink1Description: https://datasheet.ciiva.com/11819/0900766b80c66297-11819462.pdf?src-supplier=RSComponents; ComponentLink2URL: https://datasheet.ciiva.com/7849/1018594-7849911.pdf?src-supplier=Element14; ComponentLink2Description: https://datasheet.ciiva.com/7849/1018594-7849911.pdf?src-supplier=Element14; ComponentLink3URL: https://datasheet.ciiva.com/26829/getdatasheetpartid-554995-26829991.pdf?src-supplier=Verical; ComponentLink3Description: https://datasheet.ciiva.com/26829/getdatasheetpartid-554995-26829991.pdf?src-supplier=Verical; ComponentLink4URL: https://datasheet.ciiva.com/7849/1018594-7849912.pdf?src-supplier=Element14; ComponentLink4Description: https://datasheet.ciiva.com/7849/1018594-7849912.pdf?src-supplier=Element14; ComponentLink5URL: https://datasheet.ciiva.com/16930/pyu-rc0402-51-rohs-l-6-r-16930687.pdf?src-supplier=Future+Electronics; ComponentLink5Description: https://datasheet.ciiva.com/16930/pyu-rc0402-51-rohs-l-6-r-16930687.pdf?src-supplier=Future+Electronics; Supplier Part Number 1: 311-22.0LRTR-ND
footprint RESC1005X04N - 0402 (Chip Resistor, 2-Leads, Body 1/00x0/50mm, IPC Medium Density)
footprint RESC1005X04M - 0402 (Chip Resistor, 2-Leads, Body 1/00x0/50mm, IPC Low Density)
footprint RESC1005X04L - 0402 (Chip Resistor, 2-Leads, Body 1/00x0/50mm, IPC High Density)
pins: 1, 2